# EAGLE library part MODULE_BMP280 (library SobieskiSat2)
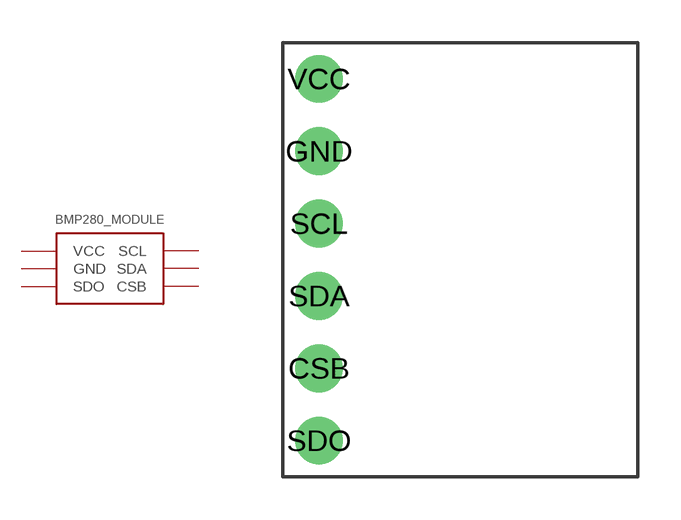
[diagram p4: symbol with the pads of MODULE_BMP280; footprint MODULE_BMP280]

Designator prefix -

## MODULE_BMP280  [MODULE_BMP280]
CSB  CSB
GND  GND
SCL  SCL
SDA  SDA
SDO  SDO
VCC  VCC

## Footprint MODULE_BMP280 (pad centres in mm)
drill 1.016 pad 1.676: CSB -5.46,-3.81; GND -5.46,3.81; SCL -5.46,1.27; SDA -5.46,-1.27; SDO -5.46,-6.35; VCC -5.46,6.35